# EAGLE library part MAX5075 (library ic)
MAX5075: Push-pull FET driver (Maxim) with integrated oscillator 15V, ±3A, 250kHz
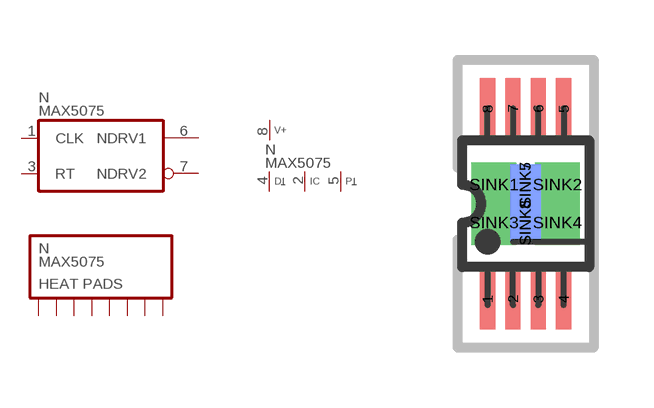
[diagram p98: symbol with the pads of USOP08-EP; footprint USOP08-EP]

Designator prefix N; gates  =MAX5075 P=V+3GND S=SINK08

## MAX5075  [USOP08-EP]
1   :CLK  out
2  P:IC  pwr
3   :RT  pas
4  P:DGND  pwr
5  P:PGND  pwr
6   :NDRV1  out
7   :NDRV2  out
8  P:V+  pwr
SINK1  S:1
SINK2  S:2
SINK3  S:3
SINK4  S:4
SINK5  S:5
SINK6  S:6
SINK7  S:7
SINK8  S:8

## Footprint USOP08-EP (pad centres in mm)
µSOP-8: Fine-pitch SMD, 8 pins, exposed paddle
smd 0.381 x 1.524: 1 -0.953,-2.381; 2 -0.318,-2.381; 3 0.318,-2.381; 4 0.953,-2.381; 5 0.953,2.381; 6 0.318,2.381; 7 -0.318,2.381; 8 -0.953,2.381
drill 0.61 pad 1.016 square: SINK1 -0.794,0.476; SINK2 0.794,0.476; SINK3 -0.794,-0.476; SINK4 0.794,-0.476
smd 0.762 x 1.016: SINK5 0,0.476; SINK6 0,-0.476
smd 0.762 x 1.016 bottom: SINK7 0,0.476; SINK8 0,-0.476